# Altium footprint library HDMIESD.PcbLib: 3 footprints
Each footprint in its own frame and in the unit in brackets; x right, y up, seen from the top. Pads: shape width x height; smd on the part's side, far side on the other; paste and mask are expansions set on the pad; w line width, h text height; cw(c..) or ccw(c..) is an arc to the next point about the centre after c.
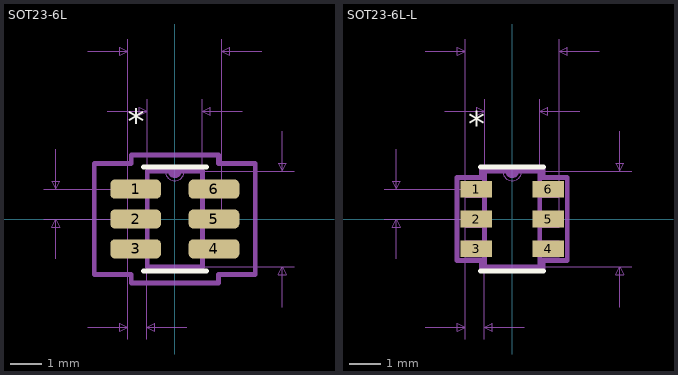
[diagram p0: the footprints below, top view; thin cyan lines are the x and y axes]

## PCBComponent_1 [mm]

## SOT23-6L [mm]
pads (6):
  rrect50% 1.61x0.608 smd: 1(-1.244,0.95) 2(-1.244,0) 3(-1.244,-0.95) 4(1.244,-0.95) 5(1.244,0) 6(1.244,0.95)
Top Overlay:
  lines w0.152: -1.003,-1.651 1.003,-1.651 ; -1.003,1.651 1.003,1.651
  text "*" at -1.498,2.701 h0.79
Mechanical 1:
  lines w0.025: -0.305,1.524 ccw(c0,1.524) 0.305,1.524 ; -1.499,-1.204 -0.876,-1.204 -0.876,-0.696 -1.499,-0.696 -1.499,-1.204 ; -1.499,-0.254 -0.876,-0.254 -0.876,0.254 -1.499,0.254 -1.499,-0.254 ; -1.499,0.696 -0.876,0.696 -0.876,1.204 -1.499,1.204 -1.499,0.696 ; -0.876,-1.524 -0.876,1.524 0.876,1.524 0.876,-1.524 -0.876,-1.524 ; 0.876,-1.204 1.499,-1.204 1.499,-0.696 0.876,-0.696 0.876,-1.204 ; 0.876,-0.254 1.499,-0.254 1.499,0.254 0.876,0.254 0.876,-0.254 ; 0.876,0.696 1.499,0.696 1.499,1.204 0.876,1.204 0.876,0.696
  text "*" at -0.495,1.448 h0.79
Mechanical 16:
  lines w0.025: -4.165,0 -1.244,0 ; -4.165,0.95 -1.244,0.95 ; -3.784,-1.27 -3.784,0 ; -3.784,2.22 -3.784,0.95 ; -2.769,-3.429 -1.499,-3.429 ; -2.769,5.334 -1.499,5.334 ; -2.146,3.429 -0.876,3.429 ; -1.499,-3.81 -1.499,0 -1.499,5.715 ; -0.889,-3.81 -0.889,0 ; -0.876,0 -0.876,3.81 ; 0,-1.524 3.797,-1.524 ; 0,1.524 3.797,1.524 ; 0.381,-3.429 -0.889,-3.429 ; 0.876,0 0.876,3.81 ; 1.499,0 1.499,5.715 ; 2.146,3.429 0.876,3.429 ; 2.769,5.334 1.499,5.334 ; 3.416,-2.794 3.416,-1.524 ; 3.416,2.794 3.416,1.524 ; -3.784,0 -3.657,-0.254 -3.911,-0.254 -3.784,0 ; -3.784,0.95 -3.657,1.204 -3.911,1.204 -3.784,0.95 ; -1.499,-3.429 -1.753,-3.556 -1.753,-3.302 -1.499,-3.429 ; -1.499,5.334 -1.753,5.207 -1.753,5.461 -1.499,5.334 ; -0.889,-3.429 -0.635,-3.556 -0.635,-3.302 -0.889,-3.429 ; -0.876,3.429 -1.13,3.302 -1.13,3.556 -0.876,3.429 ; 0.876,3.429 1.13,3.302 1.13,3.556 0.876,3.429 ; 1.499,5.334 1.753,5.207 1.753,5.461 1.499,5.334 ; 3.416,-1.524 3.543,-1.778 3.289,-1.778 3.416,-1.524 ; 3.416,1.524 3.543,1.778 3.289,1.778 3.416,1.524
  lines w0.152: -0.146,1.524 ccw(c0,1.524) 0.146,1.524 ; -2.557,-1.762 -1.384,-1.762 -1.384,-2.032 1.384,-2.032 1.384,-1.762 2.557,-1.762 2.557,1.762 1.384,1.762 1.384,2.032 -1.384,2.032 -1.384,1.762 -2.557,1.762 -2.557,-1.762 ; -0.876,-1.524 0.876,-1.524 0.876,1.524 -0.876,1.524 -0.876,-1.524
  text "0.024in/0.61mm" at -1.194,-3.937 h0.4
  text "0.037in/0.95mm" at -4.292,0.475 h0.4
  text "0.12in/3.048mm" at 3.924,0 h0.4
  text "0.118in/2.997mm" at 0,5.842 h0.4
  text "0.069in/1.753mm" at 0,3.937 h0.4
  text "Alt 2 Padstyle: b229_152h76" at 0,-12.954 h0.79
  text "Alt 1 Padstyle: b152_229h76" at 0,-11.43 h0.79
  text "Pin One Padstyle: r161_61" at 0,-6.858 h0.79
  text "Default Padstyle: r161_61" at 0,-5.334 h0.79

## SOT23-6L-L [mm]
pads (6):
  rect 1.01x0.528 smd: 1(-1.144,0.95) 2(-1.144,0) 3(-1.144,-0.95) 4(1.144,-0.95) 5(1.144,0) 6(1.144,0.95)
Top Overlay:
  lines w0.152: -1.003,-1.651 1.003,-1.651 ; -1.003,1.651 1.003,1.651
  text "*" at -1.398,2.621 h0.79
Mechanical 1:
  lines w0.025: -0.305,1.524 ccw(c0,1.524) 0.305,1.524 ; -1.499,-1.204 -0.876,-1.204 -0.876,-0.696 -1.499,-0.696 -1.499,-1.204 ; -1.499,-0.254 -0.876,-0.254 -0.876,0.254 -1.499,0.254 -1.499,-0.254 ; -1.499,0.696 -0.876,0.696 -0.876,1.204 -1.499,1.204 -1.499,0.696 ; -0.876,-1.524 -0.876,1.524 0.876,1.524 0.876,-1.524 -0.876,-1.524 ; 0.876,-1.204 1.499,-1.204 1.499,-0.696 0.876,-0.696 0.876,-1.204 ; 0.876,-0.254 1.499,-0.254 1.499,0.254 0.876,0.254 0.876,-0.254 ; 0.876,0.696 1.499,0.696 1.499,1.204 0.876,1.204 0.876,0.696
  text "*" at -0.495,1.448 h0.79
Mechanical 16:
  lines w0.025: -4.065,0 -1.144,0 ; -4.065,0.95 -1.144,0.95 ; -3.684,-1.27 -3.684,0 ; -3.684,2.22 -3.684,0.95 ; -2.769,-3.429 -1.499,-3.429 ; -2.769,5.334 -1.499,5.334 ; -2.146,3.429 -0.876,3.429 ; -1.499,-3.81 -1.499,0 -1.499,5.715 ; -0.889,-3.81 -0.889,0 ; -0.876,0 -0.876,3.81 ; 0,-1.524 3.797,-1.524 ; 0,1.524 3.797,1.524 ; 0.381,-3.429 -0.889,-3.429 ; 0.876,0 0.876,3.81 ; 1.499,0 1.499,5.715 ; 2.146,3.429 0.876,3.429 ; 2.769,5.334 1.499,5.334 ; 3.416,-2.794 3.416,-1.524 ; 3.416,2.794 3.416,1.524 ; -3.684,0 -3.557,-0.254 -3.811,-0.254 -3.684,0 ; -3.684,0.95 -3.557,1.204 -3.811,1.204 -3.684,0.95 ; -1.499,-3.429 -1.753,-3.556 -1.753,-3.302 -1.499,-3.429 ; -1.499,5.334 -1.753,5.207 -1.753,5.461 -1.499,5.334 ; -0.889,-3.429 -0.635,-3.556 -0.635,-3.302 -0.889,-3.429 ; -0.876,3.429 -1.13,3.302 -1.13,3.556 -0.876,3.429 ; 0.876,3.429 1.13,3.302 1.13,3.556 0.876,3.429 ; 1.499,5.334 1.753,5.207 1.753,5.461 1.499,5.334 ; 3.416,-1.524 3.543,-1.778 3.289,-1.778 3.416,-1.524 ; 3.416,1.524 3.543,1.778 3.289,1.778 3.416,1.524
  lines w0.152: -0.146,1.524 ccw(c0,1.524) 0.146,1.524 ; -1.75,-1.316 -0.978,-1.316 -0.978,-1.626 0.978,-1.626 0.978,-1.316 1.75,-1.316 1.75,1.316 0.978,1.316 0.978,1.626 -0.978,1.626 -0.978,1.316 -1.75,1.316 -1.75,-1.316 ; -0.876,-1.524 0.876,-1.524 0.876,1.524 -0.876,1.524 -0.876,-1.524
  text "0.024in/0.61mm" at -1.194,-3.937 h0.4
  text "0.037in/0.95mm" at -4.192,0.475 h0.4
  text "0.12in/3.048mm" at 3.924,0 h0.4
  text "0.118in/2.997mm" at 0,5.842 h0.4
  text "0.069in/1.753mm" at 0,3.937 h0.4
  text "Alt 2 Padstyle: b229_152h76" at 0,-12.954 h0.79
  text "Alt 1 Padstyle: b152_229h76" at 0,-11.43 h0.79
  text "Pin One Padstyle: r101_53" at 0,-6.858 h0.79
  text "Default Padstyle: r101_53" at 0,-5.334 h0.79